# Altium schematic symbol library DDR3-STD-FBGA78.SchLib: 1 symbol
Pins are listed as number, name and electrical type; pins without a type are passive.

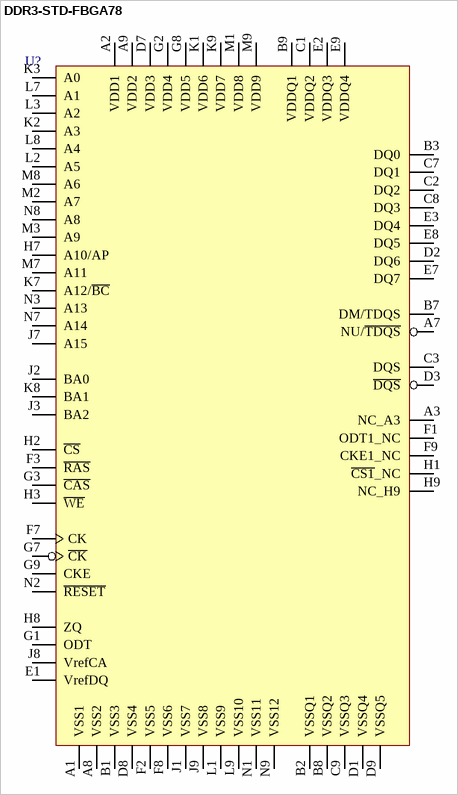
[diagram p0: symbol DDR3-STD-FBGA78]

## DDR3-STD-FBGA78
designator U?  (value not drawn)
pins: A1 VSS1, A2 VDD1, A3 NC_A3, A7 NU/~{TDQS}, A8 VSS2, A9 VDD2, B1 VSS3, B2 VSSQ1, B3 DQ0, B7 DM/TDQS, B8 VSSQ2, B9 VDDQ1, C1 VDDQ2, C2 DQ2, C3 DQS, C7 DQ1, C8 DQ3, C9 VSSQ3, D1 VSSQ4, D2 DQ6, D3 ~{DQS}, D7 VDD3, D8 VSS4, D9 VSSQ5, E1 VrefDQ, E2 VDDQ3, E3 DQ4, E7 DQ7, E8 DQ5, E9 VDDQ4, F1 ODT1_NC, F2 VSS5, F3 ~{RAS}, F7 CK, F8 VSS6, F9 CKE1_NC, G1 ODT, G2 VDD4, G3 ~{CAS}, G7 ~{CK}, G8 VDD5, G9 CKE, H1 ~{CS1}_NC, H2 ~{CS}, H3 ~{WE}, H7 A10/AP, H8 ZQ, H9 NC_H9, J1 VSS7, J2 BA0, J3 BA2, J7 A15, J8 VrefCA, J9 VSS8, K1 VDD6, K2 A3, K3 A0, K7 A12/~{BC}, K8 BA1, K9 VDD7, L1 VSS9, L2 A5, L3 A2, L7 A1, L8 A4, L9 VSS10, M1 VDD8, M2 A7, M3 A9, M7 A11, M8 A6, M9 VDD9, N1 VSS11, N2 ~{RESET}, N3 A13, N7 A14, N8 A8, N9 VSS12